# Altium footprint library CMT850390SMTTR.PcbLib: 1 footprints
Each footprint in its own frame and in the unit in brackets; x right, y up, seen from the top. Pads: shape width x height; smd on the part's side, far side on the other; paste and mask are expansions set on the pad; w line width, h text height; cw(c..) or ccw(c..) is an arc to the next point about the centre after c.
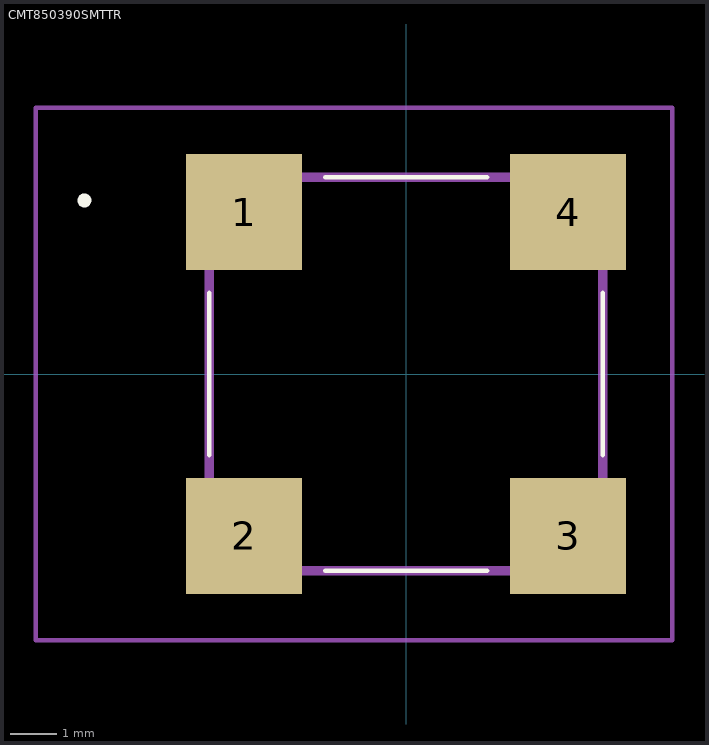
[diagram p0: the footprint, top view; thin cyan lines are the x and y axes]

## CMT850390SMTTR [mm]
pads (4):
  rect 2.5x2.5 smd: 1(-3.5,3.5) 2(-3.5,-3.5) 3(3.5,-3.5) 4(3.5,3.5)
Top Overlay:
  lines w0.1: -4.25,-1.75 -4.25,-1.75 ; -4.25,-1.75 -4.25,1.75 ; -4.25,-1.75 -4.25,1.75 ; -4.25,1.75 -4.25,1.75 ; -1.75,-4.25 1.75,-4.25 ; -1.75,-4.25 -1.75,-4.25 ; -1.75,-4.25 1.75,-4.25 ; -1.75,4.25 1.75,4.25 ; -1.75,4.25 1.75,4.25 ; -1.75,4.25 -1.75,4.25 ; 1.75,-4.25 1.75,-4.25 ; 1.75,4.25 1.75,4.25 ; 4.25,-1.75 4.25,1.75 ; 4.25,-1.75 4.25,-1.75 ; 4.25,-1.75 4.25,1.75 ; 4.25,1.75 4.25,1.75
  lines w0.2: -7,3.75 -7,3.75 ; -7,3.75 ccw(c-6.95,3.75) -6.9,3.75 ; -7,3.75 cw(c-6.95,3.75) -6.9,3.75 ; -7,3.75 -7,3.75 ; -7,3.75 ccw(c-6.95,3.75) -6.9,3.75 ; -6.9,3.75 -6.9,3.75
Mechanical 15:
  lines w0.2: -4.25,-4.25 4.25,-4.25 4.25,4.25 -4.25,4.25 -4.25,-4.25
Mechanical 20:
  lines w0.1: -8,-5.75 5.75,-5.75 5.75,5.75 -8,5.75 -8,-5.75